# Altium schematic symbol library Wiznet.SchLib: 1 symbol
Pins are listed as number, name and electrical type; pins without a type are passive.

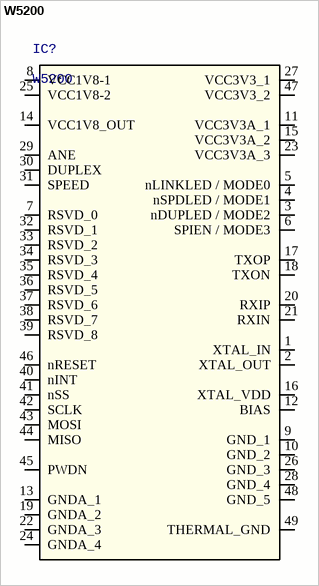
[diagram p0: symbol W5200]

## W5200
designator IC?
WizNet W5200 Ethernet Transceiver; Supplier 1: RS; Supplier Part Number 1: 758-1048; Manufacturer 1: WizNet; Manufacturer Part Number 1: W5200
footprint QFN50P700X700X90_HS-49N (QFN, 48-Leads, Body 7.00x7.00mm, Pitch 0.50mm, Thermal Pad 5.06x5.06mm, IPC Medium Density)
pins: 1 XTAL_IN, 2 XTAL_OUT, 3 nDUPLED / MODE2, 4 nSPDLED / MODE1, 5 nLINKLED / MODE0, 6 SPIEN / MODE3, 7 RSVD_0 (power), 8 VCC1V8-1 (power), 9 GND_1 (power), 10 GND_2 (power), 11 VCC3V3A_1 (power), 12 BIAS, 13 GNDA_1, 14 VCC1V8_OUT (power), 15 VCC3V3A_2 (power), 16 XTAL_VDD, 17 TXOP, 18 TXON, 19 GNDA_2, 20 RXIP, 21 RXIN, 22 GNDA_3, 23 VCC3V3A_3 (power), 24 GNDA_4, 25 VCC1V8-2 (power), 26 GND_3 (power), 27 VCC3V3_1 (power), 28 GND_4 (power), 29 ANE (power), 30 DUPLEX (power), 31 SPEED (power), 32 RSVD_1 (power), 33 RSVD_2 (power), 34 RSVD_3 (power), 35 RSVD_4 (power), 36 RSVD_5 (power), 37 RSVD_6 (power), 38 RSVD_7 (power), 39 RSVD_8 (power), 40 nINT, 41 nSS, 42 SCLK, 43 MOSI, 44 MISO, 45 PWDN, 46 nRESET, 47 VCC3V3_2 (power), 48 GND_5 (power), 49 THERMAL_GND (power)